# Altium schematic symbol library KaibaCorpSecretProject52.SCHLIB: 6 symbols
Pins are listed as number, name and electrical type; pins without a type are passive.

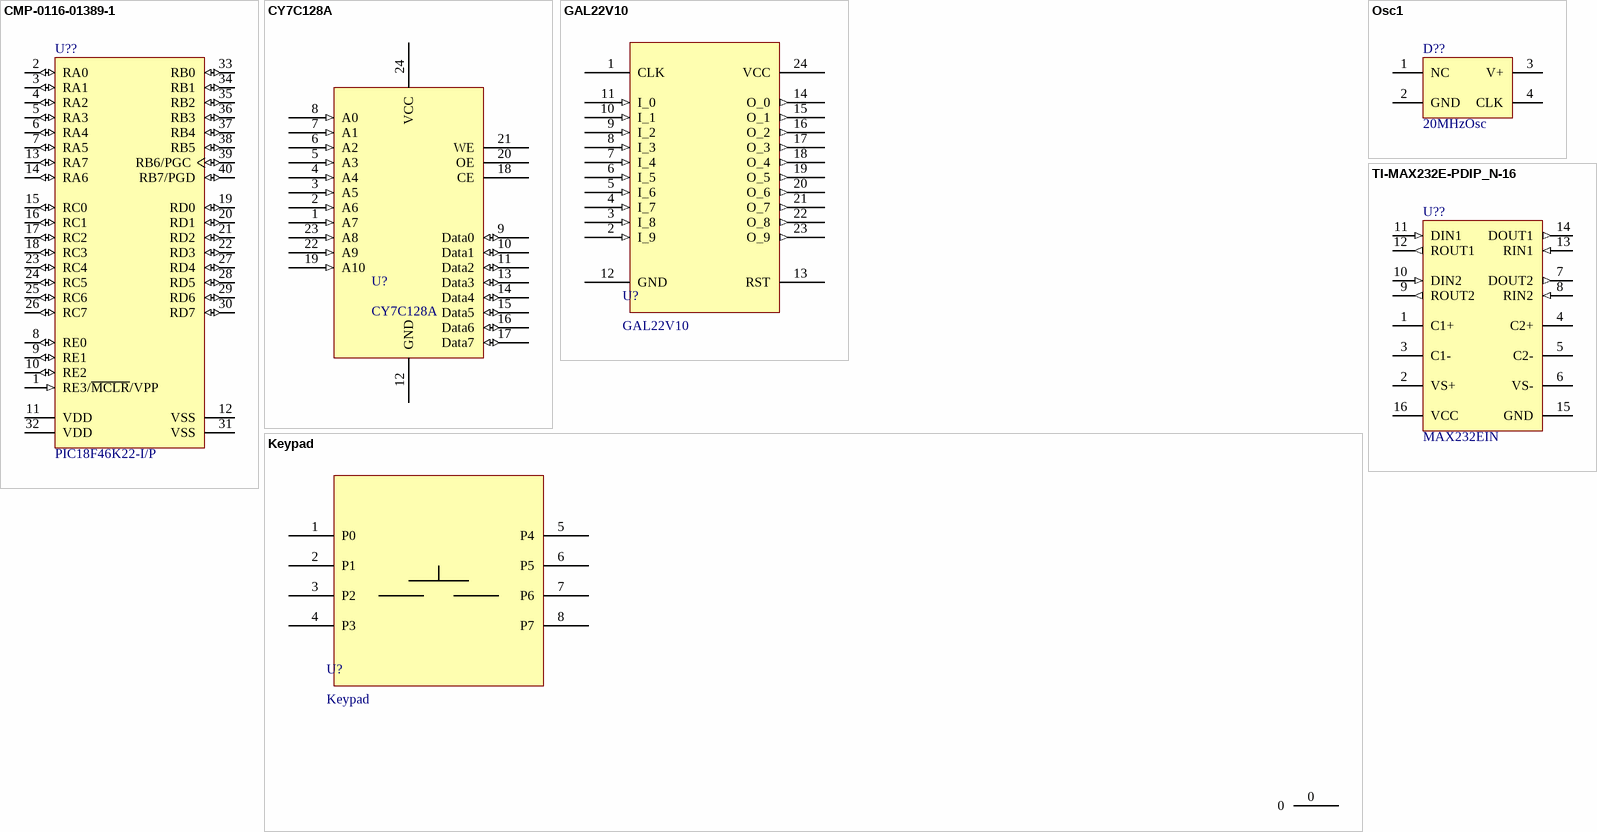
[diagram p0: symbols CMP-0116-01389-1 to TI-MAX232E-PDIP_N-16]

## CMP-0116-01389-1
designator U??, comment PIC18F46K22-I/P
Low-Power, High-Performance Microcontroller with XLP Technology, 64 MHz, 35 I/O, -40 to 85 degC, 40-pin PDIP (P40), Tube; Manufacturer: Microchip; # of A/D Channels: 28; RAM: 3896; I/O Pins: 35; Program Memory KWords: 32; Memory Type: Flash; Max. CPU Speed MHz: 64; Operation Voltage Range: 2.3V - 5.5V; Timers: 3 - 8-bit, 4 - 16-bit; Internal Oscillator: 16 MHz, 31 kHz; EEPROM Data Memory (bytes): 1024; Digital Communication: 2 -A/E/USART, 2 -MSSP(SPI/I2C); Packing: TUBE; ComponentLink2Description: Package Specification; ComponentLink3URL: Product URL:http://www.microchip.com/datasheet/PIC18F46K22; ComponentLink1URL: http://ww1.microchip.com/downloads/en/DeviceDoc/41412F.pdf; PackageReference: PDIP-P40; PackageDescription: 40-Lead Plastic Dual In-Line Package, Body 51.75 x 13.53 mm, Pitch 2.54 mm; Mounting Technology: Through Hole; ComponentLink1Description: Datasheet; ComponentLink2URL: http://www.microchip.com/stellent/groups/techpub_sg/documents/packagingspec/en012702.pdf; PartNumber: PIC18F46K22-I/P; ComponentLink3Description: URL Link1; Program Memory KBytes: 64; PackageVersion: C04-016B, 04/2013; DatasheetVersion: Rev. F; RoHS: TRUE
footprint MCHP-PDIP-P40 (PDIP, 40-Leads, Body 51.75x13.53mm, Pitch 2.54mm)
pins: 1 RE3/~{MCLR}/VPP (in), 2 RA0 (io), 3 RA1 (io), 4 RA2 (io), 5 RA3 (io), 6 RA4 (io), 7 RA5 (io), 8 RE0 (io), 9 RE1 (io), 10 RE2 (io), 11 VDD (power) "Positive supply for logic and I/O pins.", 12 VSS (power) "Ground reference for logic and I/O pins", 13 RA7 (io), 14 RA6 (io), 15 RC0 (io), 16 RC1 (io), 17 RC2 (io), 18 RC3 (io), 19 RD0 (io), 20 RD1 (io), 21 RD2 (io), 22 RD3 (io), 23 RC4 (io), 24 RC5 (io), 25 RC6 (io), 26 RC7 (io), 27 RD4 (io), 28 RD5 (io), 29 RD6 (io), 30 RD7 (io), 31 VSS (power) "Ground reference for logic and I/O pins", 32 VDD (power) "Positive supply for logic and I/O pins.", 33 RB0 (io), 34 RB1 (io), 35 RB2 (io), 36 RB3 (io), 37 RB4 (io), 38 RB5 (io), 39 RB6/PGC (io), 40 RB7/PGD (io)

## CY7C128A
designator U?
2k x 8 SRAM
pins: 1 A7 (in), 2 A6 (in), 3 A5 (in), 4 A4 (in), 5 A3 (in), 6 A2 (in), 7 A1 (in), 8 A0 (in), 9 Data0 (io), 10 Data1 (io), 11 Data2 (io), 12 GND (power), 13 Data3 (io), 14 Data4 (io), 15 Data5 (io), 16 Data6 (io), 17 Data7 (io), 18 CE, 19 A10 (in), 20 OE, 21 WE, 22 A9 (in), 23 A8 (in), 24 VCC (power)
1 alternate drawing of the same symbol

## GAL22V10
designator U?
pins: 1 CLK, 2 I_9 (in), 3 I_8 (in), 4 I_7 (in), 5 I_6 (in), 6 I_5 (in), 7 I_4 (in), 8 I_3 (in), 9 I_2 (in), 10 I_1 (in), 11 I_0 (in), 12 GND (power), 13 RST, 14 O_0 (out), 15 O_1 (out), 16 O_2 (out), 17 O_3 (out), 18 O_4 (out), 19 O_5 (out), 20 O_6 (out), 21 O_7 (out), 22 O_8 (out), 23 O_9 (out), 24 VCC (power)

## Keypad
designator U?
4x4 Keypad Matrix
pins: 0, 1 P0, 2 P1, 3 P2, 4 P3, 5 P4, 6 P5, 7 P6, 8 P7

## Osc1
designator D??, comment 20MHzOsc
20MHz Crystal Oscillator; Published: 24-Mar-1999; LatestRevisionDate: 17-Jul-2002; LatestRevisionNote: Re-released for DXP Platform.; PackageReference: D-46_6A; Publisher: Altium Limited; PackageDescription: Bridge Rectifier; 4 Terminals; Body 16.8 x 16.8 mm (typ); Pitch 10.67 mm
pins: 1 NC, 2 GND, 3 V+, 4 CLK

## TI-MAX232E-PDIP_N-16
designator U??, comment MAX232EIN
Dual RS-232 Driver / Receiver with IEC61000-4-2 Protection, -40 to 85 degC, 16-Pin PDIP (N),  Pb-Free (RoHS); Drivers Per Package: 2; Supply Voltage(s)(V): 5; ICC(Max)(mA): 10; RS-232: TRUE; ESD HBM(kV): +/-15; DatasheetVersion: SLLS723B; PackageDescription: 16-Pin Plastic Dual-In-Line Package, Row Spacing 7.62 mm, Pitch 2.54 mm; ComponentLink2Description: Datasheet; PackageVersion: revE, Dec-2002; ComponentLink1Description: Manufacturer URL; ComponentLink3Description: Package Specification; ComponentLink3URL: http://www.ti.com/litv/pdf/mpdi002c; Receivers Per Package: 2; PackageReference: N16; SubFamily: RS-232; ComponentLink1URL: www.ti.com; IEC-61000-4-2 SUPPORT: TRUE; ComponentLink2URL: http://www.ti.com/general/docs/lit/getliterature.tsp?genericPartNumber=MAX232E&fileType=pdf; Single Supply: TRUE
footprint TI-N16 (DIP, 16-Leads, Row Spacing 7.62mm, Pitch 2.54mm, Body 19.3x6.4mm)
pins: 1 C1+, 2 VS+ (power), 3 C1-, 4 C2+, 5 C2-, 6 VS- (power), 7 DOUT2 (out), 8 RIN2 (in), 9 ROUT2 (out), 10 DIN2 (in), 11 DIN1 (in), 12 ROUT1 (out), 13 RIN1 (in), 14 DOUT1 (out), 15 GND (power), 16 VCC (power)